# Altium integrated library Buffer.IntLib: 2 symbols
Pins are listed as number, name and electrical type; pins without a type are passive.

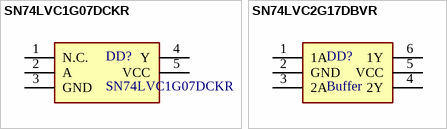
[diagram p0: symbols SN74LVC1G07DCKR to SN74LVC2G17DBVR]

## SN74LVC1G07DCKR
designator DD?
footprint SOT65P210x110-5N
pins: 1 N.C., 2 A, 3 GND, 4 Y, 5 VCC

## SN74LVC2G17DBVR
designator DD?, comment Buffer
footprint SOT95P280x145-6N
pins: 1 1A, 2 GND, 3 2A, 4 2Y, 5 VCC, 6 1Y